# EAGLE library part M40 (library xmaker)
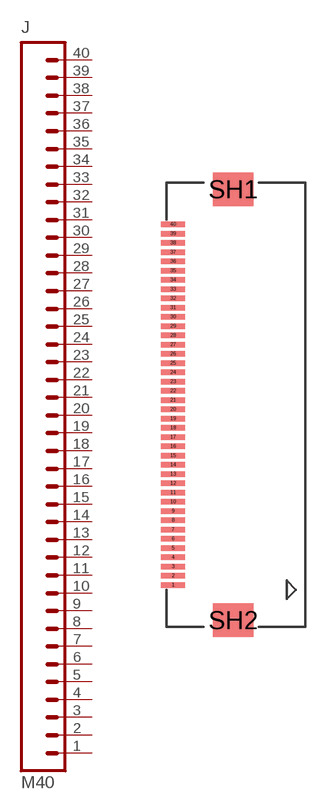
[diagram p14: symbol with the pads of FH12-40S; footprint FH12-40S]

Designator prefix J

## M40  [FH12-40S]
1  1  pas
2  2  pas
3  3  pas
4  4  pas
5  5  pas
6  6  pas
7  7  pas
8  8  pas
9  9  pas
10  10  pas
11  11  pas
12  12  pas
13  13  pas
14  14  pas
15  15  pas
16  16  pas
17  17  pas
18  18  pas
19  19  pas
20  20  pas
21  21  pas
22  22  pas
23  23  pas
24  24  pas
25  25  pas
26  26  pas
27  27  pas
28  28  pas
29  29  pas
30  30  pas
31  31  pas
32  32  pas
33  33  pas
34  34  pas
35  35  pas
36  36  pas
37  37  pas
38  38  pas
39  39  pas
40  40  pas

## Footprint FH12-40S (pad centres in mm)
Hirose
smd 1.3 x 0.3: 1 -3.25,-9.75; 2 -3.25,-9.25; 3 -3.25,-8.75; 4 -3.25,-8.25; 5 -3.25,-7.75; 6 -3.25,-7.25; 7 -3.25,-6.75; 8 -3.25,-6.25; 9 -3.25,-5.75; 10 -3.25,-5.25; 11 -3.25,-4.75; 12 -3.25,-4.25; 13 -3.25,-3.75; 14 -3.25,-3.25; 15 -3.25,-2.75; 16 -3.25,-2.25; 17 -3.25,-1.75; 18 -3.25,-1.25; 19 -3.25,-0.75; 20 -3.25,-0.25; 21 -3.25,0.25; 22 -3.25,0.75; 23 -3.25,1.25; 24 -3.25,1.75; 25 -3.25,2.25; 26 -3.25,2.75; 27 -3.25,3.25; 28 -3.25,3.75; 29 -3.25,4.25; 30 -3.25,4.75; 31 -3.25,5.25; 32 -3.25,5.75; 33 -3.25,6.25; 34 -3.25,6.75; 35 -3.25,7.25; 36 -3.25,7.75; 37 -3.25,8.25; 38 -3.25,8.75; 39 -3.25,9.25; 40 -3.25,9.75
smd 2.2 x 1.8: SH1 0,11.65; SH2 0,-11.65